# Altium schematic symbol library CAP_3.3uF_630V.SchLib: 1 symbol
Pins are listed as number, name and electrical type; pins without a type are passive.

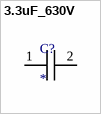
[diagram p0: symbol 3.3uF_630V]

## 3.3uF_630V
designator C?
footprint CAP_3.3uF_630V
footprint CAP_1.5uf_400V
pins: 1, 2